# Altium footprint library connectors.PcbLib: 32 footprints (part 1 of 2)
Each footprint in its own frame and in the unit in brackets; x right, y up, seen from the top. Pads: shape width x height; smd on the part's side, far side on the other; paste and mask are expansions set on the pad; w line width, h text height; cw(c..) or ccw(c..) is an arc to the next point about the centre after c.
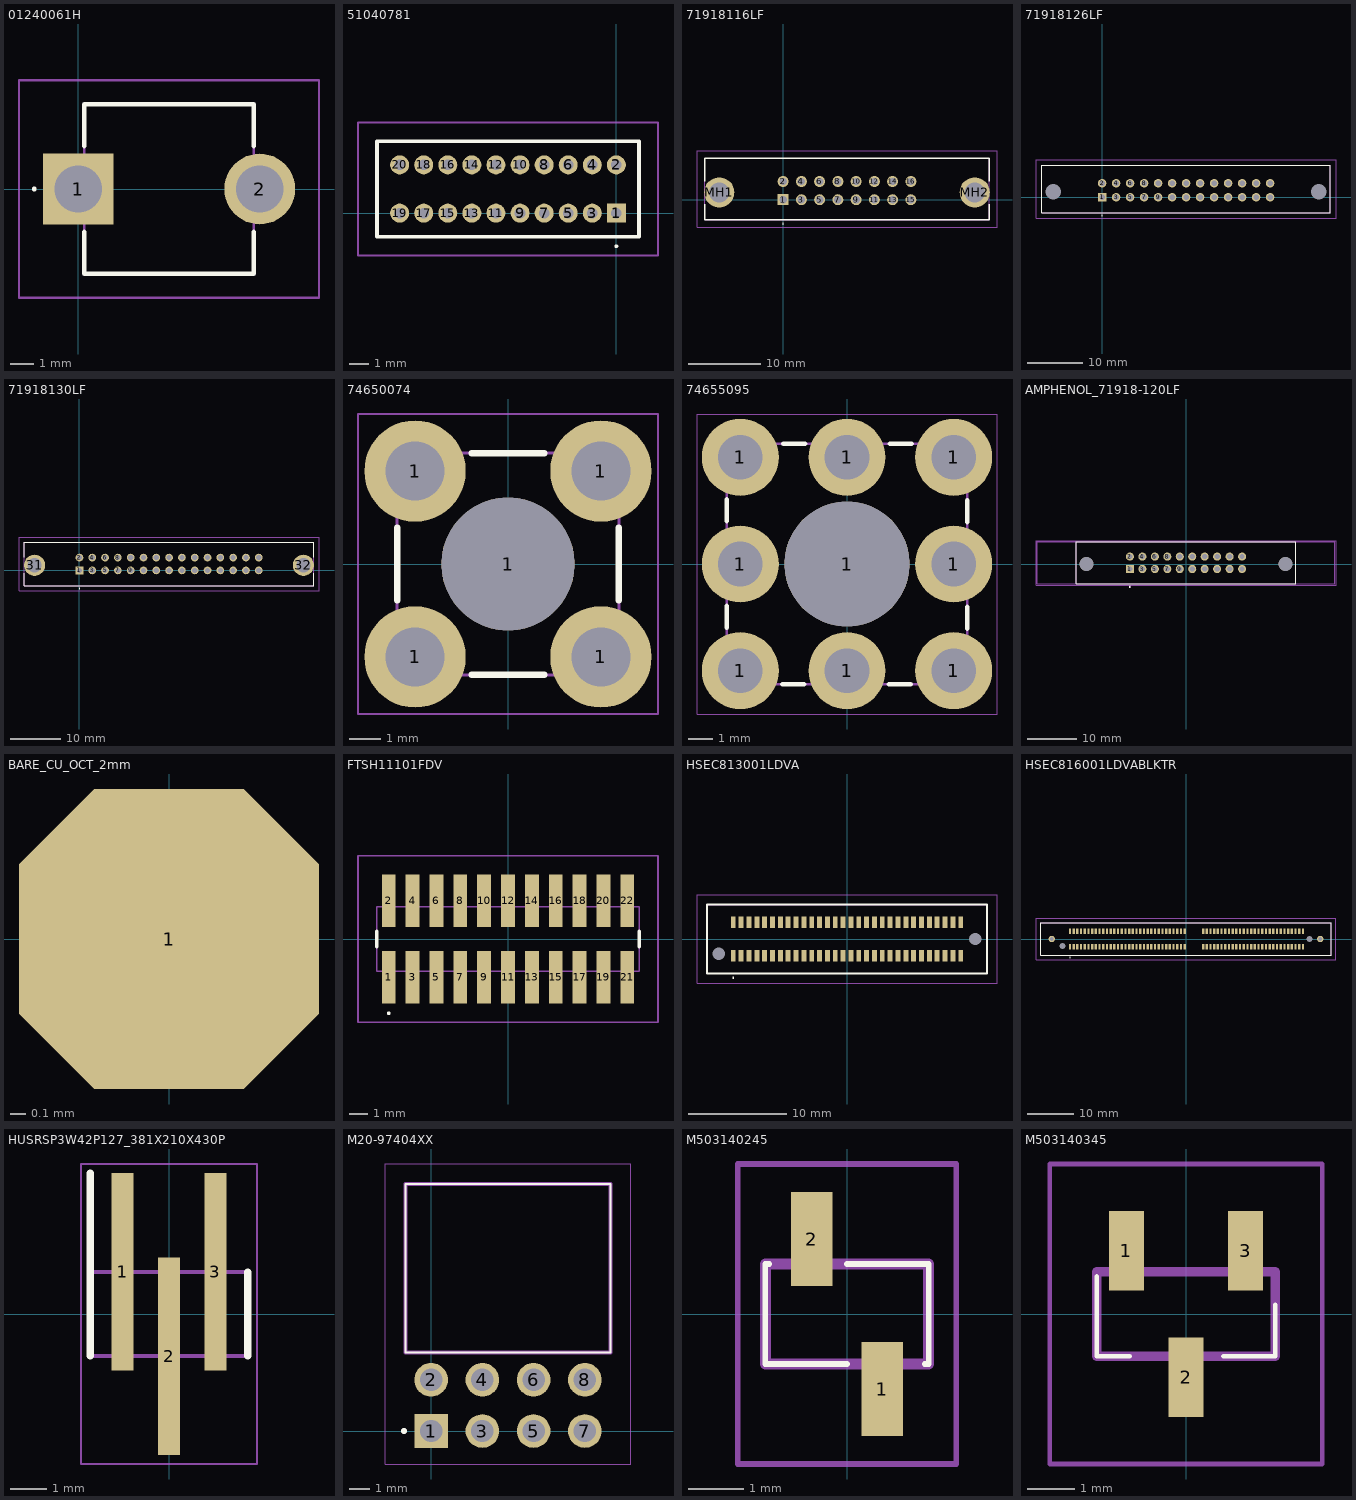
[diagram p0: the footprints below, top view; thin cyan lines are the x and y axes]

## 01240061H [mm]
pads (2):
  rect 2.97x2.97 hole 1.98: 1(0,0)
  round 2.97 hole 1.98: 2(7.6,0)
Top Overlay:
  lines w0.1: -1.9,0 ccw(c-1.85,0) -1.8,0 ccw(c-1.85,0) -1.9,0
  lines w0.2: 0.245,-1.8 0.245,-3.555 7.355,-3.555 7.355,-1.8 ; 0.245,1.8 0.245,3.555 7.355,3.555 7.355,1.8
Mechanical 13:
  lines w0.1: 0.245,-3.555 7.355,-3.555 7.355,3.555 0.245,3.555 0.245,-3.555
Mechanical 15:
  lines w0.1: -2.485,-4.555 10.085,-4.555 10.085,4.555 -2.485,4.555 -2.485,-4.555
3D body "01240061H.stp": height 10.68, standoff -3.56, extent -0.5,-3.915 7.61,3.914

## 51040781 [mm]
pads (20):
  rect 1x1 hole 0.56: 1(0,0)
  round 1 hole 0.56: 2(0,2.54) 3(-1.27,0) 4(-1.27,2.54) 5(-2.54,0) 6(-2.54,2.54) 7(-3.81,0) 8(-3.81,2.54) 9(-5.08,0) 10(-5.08,2.54) 11(-6.35,0) 12(-6.35,2.54) 13(-7.62,0) 14(-7.62,2.54) 15(-8.89,0) 16(-8.89,2.54) 17(-10.16,0) 18(-10.16,2.54) 19(-11.43,0) 20(-11.43,2.54)
Top Overlay:
  lines w0.1: 0,-1.8 cw(c0,-1.75) 0,-1.7 cw(c0,-1.75) 0,-1.8
  lines w0.2: -12.625,-1.245 1.195,-1.245 1.195,3.785 -12.625,3.785 -12.625,-1.245
Mechanical 13:
  lines w0.1: -12.625,-1.245 1.195,-1.245 1.195,3.785 -12.625,3.785 -12.625,-1.245
Mechanical 15:
  lines w0.1: -13.625,-2.245 2.195,-2.245 2.195,4.785 -13.625,4.785 -13.625,-2.245
3D body "5-104078-1.stp": height 0, standoff -11.43, extent -12.677,-1.245 1.143,3.785

## 71918116LF [mm]
pads (18):
  rect 1.53x1.53 hole 1.02: 1(0,0)
  round 1.53 hole 1.02: 2(0,2.54) 3(2.54,0) 4(2.54,2.54) 5(5.08,0) 6(5.08,2.54) 7(7.62,0) 8(7.62,2.54) 9(10.16,0) 10(10.16,2.54) 11(12.7,0) 12(12.7,2.54) 13(15.24,0) 14(15.24,2.54) 15(17.78,0) 16(17.78,2.54)
  round 4.2 hole 2.8: MH1(-8.89,1.02) MH2(26.67,1.02)
Top Overlay:
  lines w0.1: 0,-3.4 ccw(c0,-3.35) 0,-3.3 ccw(c0,-3.35) 0,-3.4
  lines w0.2: -10.92,-0.6 -10.92,-2.8 28.7,-2.805 28.7,-0.6 ; -10.92,2.6 -10.92,5.795 28.7,5.8 28.7,2.6
Mechanical 13:
  lines w0.1: -10.92,-2.805 28.7,-2.805 28.7,5.795 -10.92,5.795 -10.92,-2.805
Mechanical 15:
  lines w0.1: -11.99,-3.805 29.77,-3.805 29.77,6.795 -11.99,6.795 -11.99,-3.805
3D body "71918-116LF.stp": height 26.32, standoff -3.66, extent -10.921,-2.703 28.699,5.697

## 71918126LF [mm]
pads (28):
  rect 1.53x1.53 hole 1.02: 1(0,0)
  round 1.53 hole 1.02: 2(0,2.54) 3(2.54,0) 4(2.54,2.54) 5(5.08,0) 6(5.08,2.54) 7(7.62,0) 8(7.62,2.54) 9(10.16,0) 10(10.16,2.54) 11(12.7,0) 12(12.7,2.54) 13(15.24,0) 14(15.24,2.54) 15(17.78,0) 16(17.78,2.54) 17(20.32,0) 18(20.32,2.54) 19(22.86,0) 20(22.86,2.54) 21(25.4,0) 22(25.4,2.54) 23(27.94,0) 24(27.94,2.54) 25(30.48,0) 26(30.48,2.54)
  round 1.4 hole 2.8 unplated: 27(-8.89,1.02) 28(39.33,1.02)
Top Overlay:
  lines w0.1: 0,-3.4 cw(c0,-3.35) 0,-3.3 cw(c0,-3.35) 0,-3.4
  lines w0.2: -10.94,-2.805 41.38,-2.805 41.38,5.795 -10.94,5.795 -10.94,-2.805
Mechanical 13:
  lines w0.1: -10.94,-2.805 -10.94,5.795 41.38,5.795 41.38,-2.805 -10.94,-2.805
Mechanical 15:
  lines w0.1: -11.99,-3.805 -11.99,6.795 42.43,6.795 42.43,-3.805 -11.99,-3.805
3D body "71918-126LF.stp": height 27.14, standoff -2.84, extent -10.941,-2.703 41.379,5.697

## 71918130LF [mm]
pads (32):
  rect 1.53x1.53 hole 1.02: 1(0,0)
  round 1.53 hole 1.02: 2(0,2.54) 3(2.54,0) 4(2.54,2.54) 5(5.08,0) 6(5.08,2.54) 7(7.62,0) 8(7.62,2.54) 9(10.16,0) 10(10.16,2.54) 11(12.7,0) 12(12.7,2.54) 13(15.24,0) 14(15.24,2.54) 15(17.78,0) 16(17.78,2.54) 17(20.32,0) 18(20.32,2.54) 19(22.86,0) 20(22.86,2.54) 21(25.4,0) 22(25.4,2.54) 23(27.94,0) 24(27.94,2.54) 25(30.48,0) 26(30.48,2.54) 27(33.02,0) 28(33.02,2.54) 29(35.56,0) 30(35.56,2.54)
  round 4.2 hole 2.8: 31(-8.89,1.02) 32(44.41,1.02)
Top Overlay:
  lines w0.1: 0,-3.6 ccw(c0,-3.55) 0,-3.5 ccw(c0,-3.55) 0,-3.6
  lines w0.2: -10.94,-0.6 -10.94,-3.03 46.46,-3.03 46.46,-0.6 ; -10.94,2.6 -10.94,5.57 -10.8,5.57 46.46,5.57 46.46,2.6
Mechanical 13:
  lines w0.1: -10.94,-3.03 46.46,-3.03 46.46,5.57 -10.94,5.57 -10.94,-3.03
Mechanical 15:
  lines w0.1: -11.99,-4.03 47.51,-4.03 47.51,6.57 -11.99,6.57 -11.99,-4.03
3D body "71918-130LF.stp": height 26.56, standoff -3.42, extent -10.941,-2.933 46.459,5.467

## 74650074 [mm] "REDCUBE THR with internal thread, M4x2.5mm, through"
height 3
pads (5):
  round 3.2 hole 1.85: 1(-2.935,-2.935) 1(-2.935,2.935) 1(2.935,-2.935) 1(2.935,2.935)
  round 4.2 hole 4.2 unplated: 1(0,0)
Top Overlay:
  lines w0.2: -3.5,-1.15 -3.5,1.15 ; -1.15,-3.5 1.15,-3.5 ; -1.15,3.5 1.15,3.5 ; 3.5,-1.15 3.5,1.15
Top Paste:
  region: -2.935,1.385 -3.088,1.385 -3.387,1.445 -3.669,1.561 -3.923,1.731 -4.139,1.947 -4.309,2.201 -4.425,2.483 -4.485,2.782 -4.485,2.935 -4.485,3.088 -4.425,3.387 -4.309,3.669 -4.139,3.923 -3.923,4.139 -3.669,4.309 -3.387,4.425 -3.088,4.485 -2.935,4.485 -2.782,4.485 -2.483,4.425 -2.201,4.309 -1.947,4.139 -1.731,3.923 -1.561,3.669 -1.445,3.387 -1.385,3.088 -1.385,2.935 -1.385,2.782 -1.445,2.483 -1.561,2.201 -1.731,1.947 -1.947,1.731 -2.201,1.561 -2.483,1.445 -2.782,1.385
  region: 2.935,1.385 2.782,1.385 2.483,1.445 2.201,1.561 1.947,1.731 1.731,1.947 1.561,2.201 1.445,2.483 1.385,2.782 1.385,2.935 1.385,3.088 1.445,3.387 1.561,3.669 1.731,3.923 1.947,4.139 2.201,4.309 2.483,4.425 2.782,4.485 2.935,4.485 3.088,4.485 3.387,4.425 3.669,4.309 3.923,4.139 4.139,3.923 4.309,3.669 4.425,3.387 4.485,3.088 4.485,2.935 4.485,2.782 4.425,2.483 4.309,2.201 4.139,1.947 3.923,1.731 3.669,1.561 3.387,1.445 3.088,1.385
  region: 2.935,-4.485 2.782,-4.485 2.483,-4.425 2.201,-4.309 1.947,-4.139 1.731,-3.923 1.561,-3.669 1.445,-3.387 1.385,-3.088 1.385,-2.935 1.385,-2.782 1.445,-2.483 1.561,-2.201 1.731,-1.947 1.947,-1.731 2.201,-1.561 2.483,-1.445 2.782,-1.385 2.935,-1.385 3.088,-1.385 3.387,-1.445 3.669,-1.561 3.923,-1.731 4.139,-1.947 4.309,-2.201 4.425,-2.483 4.485,-2.782 4.485,-2.935 4.485,-3.088 4.425,-3.387 4.309,-3.669 4.139,-3.923 3.923,-4.139 3.669,-4.309 3.387,-4.425 3.088,-4.485
  region: -2.935,-4.485 -3.088,-4.485 -3.387,-4.425 -3.669,-4.309 -3.923,-4.139 -4.139,-3.923 -4.309,-3.669 -4.425,-3.387 -4.485,-3.088 -4.485,-2.935 -4.485,-2.782 -4.425,-2.483 -4.309,-2.201 -4.139,-1.947 -3.923,-1.731 -3.669,-1.561 -3.387,-1.445 -3.088,-1.385 -2.935,-1.385 -2.782,-1.385 -2.483,-1.445 -2.201,-1.561 -1.947,-1.731 -1.731,-1.947 -1.561,-2.201 -1.445,-2.483 -1.385,-2.782 -1.385,-2.935 -1.385,-3.088 -1.445,-3.387 -1.561,-3.669 -1.731,-3.923 -1.947,-4.139 -2.201,-4.309 -2.483,-4.425 -2.782,-4.485
Top Courtyard:
  lines w0.05: -0.5,0 0.5,0 ; 0,-0.5 0,0.5 ; -4.735,-4.735 4.735,-4.735 4.735,4.735 -4.735,4.735 -4.735,-4.735
Top 3D Body:
  lines w0.1: -3.5,-3.5 3.5,-3.5 3.5,3.5 -3.5,3.5 -3.5,-3.5
Top Component Outline:
  lines w0.1: -3.5,-3.5 -3.5,3.5 3.5,3.5 3.5,-3.5 -3.5,-3.5
3D body "74650074.stp": height 3, standoff -2.5, extent -3.5,-3.5 3.5,3.5

## 74655095 [mm] "REDCUBE THR with internal thread, M5x3.5mm, through"
height 4
pads (9):
  round 3.2 hole 1.85: 1(-4.435,-4.435) 1(-4.435,0) 1(-4.435,4.435) 1(0,-4.435) 1(0,4.435) 1(4.435,-4.435) 1(4.435,0) 1(4.435,4.435)
  round 5.2 hole 5.2 unplated: 1(0,0)
Top Overlay:
  lines w0.2: -5,-2.65 -5,-1.75 ; -5,1.785 -5,2.685 ; -2.685,-5 -1.785,-5 ; -2.65,5 -1.75,5 ; 1.75,-5 2.65,-5 ; 1.785,5 2.685,5 ; 5,-2.685 5,-1.785 ; 5,1.75 5,2.65
Top Paste:
  drawing of 8 lines, arcs and shapes, not listed
Top Courtyard:
  lines w0.05: -0.5,0 0.5,0 ; 0,-0.5 0,0.5 ; -6.235,-6.235 -6.235,6.235 6.235,6.235 6.235,-6.235 -6.235,-6.235
Top 3D Body:
  lines w0.1: -5,-5 5,-5 5,5 -5,5 -5,-5
Top Designator:
  text ".Designator" at -7.498,-0.5 h1.5
Top Component Outline:
  lines w0.1: -5,-5 -5,5 5,5 5,-5 -5,-5
3D body "74655095.stp": height 4, standoff -2.5, extent -5,-5 5,5

## AMPHENOL_71918-120LF [mm]
height 26.8
pads (22):
  rect 1.65x1.65 / inner round 1.65 / far side rect 1.65x1.65 hole 1.1: 1(-11.43,-1.02)
  round 1.65 hole 1.1: 2(-11.43,1.52) 3(-8.89,-1.02) 4(-8.89,1.52) 5(-6.35,-1.02) 6(-6.35,1.52) 7(-3.81,-1.02) 8(-3.81,1.52) 9(-1.27,-1.02) 10(-1.27,1.52) 11(1.27,-1.02) 12(1.27,1.52) 13(3.81,-1.02) 14(3.81,1.52) 15(6.35,-1.02) 16(6.35,1.52) 17(8.89,-1.02) 18(8.89,1.52) 19(11.43,-1.02) 20(11.43,1.52)
  round 2.8 hole 2.8 unplated: ""(-20.32,0) ""(20.28,0)
Top Overlay:
  circle w0.2: c-11.43,-4.675 r0.1
  lines w0.127: -22.35,-4.075 -22.35,4.525 22.35,4.525 22.35,-4.075 -22.35,-4.075
Mechanical 13:
  circle w0.2: c-11.43,-4.675 r0.1
  lines w0.127: -22.35,-4.075 -22.35,4.525 ; -22.35,-4.075 22.35,-4.075 ; -22.35,-4.075 -30.35,-4.075 -30.35,4.525 -22.35,4.525 ; -22.35,4.525 22.35,4.525 ; 22.35,-4.075 22.35,4.525 ; 22.35,-4.075 30.35,-4.075 30.35,4.525 22.35,4.525
Mechanical 15:
  lines w0.05: -30.6,-4.325 -30.6,4.775 30.6,4.775 30.6,-4.325 -30.6,-4.325
3D body "step_temp.STEP": height 26.8, standoff -3.19, extent -22.348,-3.819 22.352,4.581

## BARE_CU_OCT_2mm [mm]
pads (1):
  oct 2x2 smd: 1(0,0)

## FTSH11101FDV [mm]
pads (22):
  rect 0.74x2.79 smd: 1(-6.35,-2.035) 2(-6.35,2.035) 3(-5.08,-2.035) 4(-5.08,2.035) 5(-3.81,-2.035) 6(-3.81,2.035) 7(-2.54,-2.035) 8(-2.54,2.035) 9(-1.27,-2.035) 10(-1.27,2.035) 11(0,-2.035) 12(0,2.035) 13(1.27,-2.035) 14(1.27,2.035) 15(2.54,-2.035) 16(2.54,2.035) 17(3.81,-2.035) 18(3.81,2.035) 19(5.08,-2.035) 20(5.08,2.035) 21(6.35,-2.035) 22(6.35,2.035)
Top Overlay:
  lines w0.1: -6.35,-4 ccw(c-6.35,-3.95) -6.35,-3.9 ccw(c-6.35,-3.95) -6.35,-4
  lines w0.2: -6.985,-0.4 -6.985,0.4 ; 6.985,-0.4 6.985,0.4
Mechanical 13:
  lines w0.1: -6.985,-1.715 6.985,-1.715 6.985,1.715 -6.985,1.715 -6.985,-1.715
Mechanical 15:
  lines w0.1: -7.985,-4.43 7.985,-4.43 7.985,4.43 -7.985,4.43 -7.985,-4.43
3D body "FTSH-111-01-F-DV.stp": height 6.2, standoff 0, extent -6.985,-3.356 6.985,3.356

## HSEC813001LDVA [mm]
pads (62):
  rect 0.5x1.2 smd: 1(-11.6,-1.7) 2(-11.6,1.7) 3(-10.8,-1.7) 4(-10.8,1.7) 5(-10,-1.7) 6(-10,1.7) 7(-9.2,-1.7) 8(-9.2,1.7) 9(-8.4,-1.7) 10(-8.4,1.7) 11(-7.6,-1.7) 12(-7.6,1.7) 13(-6.8,-1.7) 14(-6.8,1.7) 15(-6,-1.7) 16(-6,1.7) 17(-5.2,-1.7) 18(-5.2,1.7) 19(-4.4,-1.7) 20(-4.4,1.7) 21(-3.6,-1.7) 22(-3.6,1.7) 23(-2.8,-1.7) 24(-2.8,1.7) 25(-2,-1.7) 26(-2,1.7) 27(-1.2,-1.7) 28(-1.2,1.7) 29(-0.4,-1.7) 30(-0.4,1.7) 31(0.4,-1.7) 32(0.4,1.7) 33(1.2,-1.7) 34(1.2,1.7) 35(2,-1.7) 36(2,1.7) 37(2.8,-1.7) 38(2.8,1.7) 39(3.6,-1.7) 40(3.6,1.7) 41(4.4,-1.7) 42(4.4,1.7) 43(5.2,-1.7) 44(5.2,1.7) 45(6,-1.7) 46(6,1.7) 47(6.8,-1.7) 48(6.8,1.7) 49(7.6,-1.7) 50(7.6,1.7) 51(8.4,-1.7) 52(8.4,1.7) 53(9.2,-1.7) 54(9.2,1.7) 55(10,-1.7) 56(10,1.7) 57(10.8,-1.7) 58(10.8,1.7) 59(11.6,-1.7) 60(11.6,1.7)
  round 0.635 hole 1.27 unplated: 61(-13.1,-1.5) 62(13.1,0)
Top Overlay:
  lines w0.1: -11.6,-4 ccw(c-11.6,-3.95) -11.6,-3.9 ccw(c-11.6,-3.95) -11.6,-4
  lines w0.2: -14.3,-3.5 14.3,-3.5 14.3,3.5 -14.3,3.5 -14.3,-3.5
Mechanical 13:
  lines w0.1: -14.3,-3.5 14.3,-3.5 14.3,3.5 -14.3,3.5 -14.3,-3.5
Mechanical 15:
  lines w0.1: -15.3,-4.5 15.3,-4.5 15.3,4.5 -15.3,4.5 -15.3,-4.5
3D body "HSEC8-130-01-L-DV-A.stp": height 7.96, standoff -1.34, extent -14.3,-3.5 14.3,3.5

## HSEC816001LDVABLKTR [mm]
pads (124):
  rect 0.5x1.2 smd: 1(-25.1,-1.7) 2(-25.1,1.7) 3(-24.3,-1.7) 4(-24.3,1.7) 5(-23.5,-1.7) 6(-23.5,1.7) 7(-22.7,-1.7) 8(-22.7,1.7) 9(-21.9,-1.7) 10(-21.9,1.7) 11(-21.1,-1.7) 12(-21.1,1.7) 13(-20.3,-1.7) 14(-20.3,1.7) 15(-19.5,-1.7) 16(-19.5,1.7) 17(-18.7,-1.7) 18(-18.7,1.7) 19(-17.9,-1.7) 20(-17.9,1.7) 21(-17.1,-1.7) 22(-17.1,1.7) 23(-16.3,-1.7) 24(-16.3,1.7) 25(-15.5,-1.7) 26(-15.5,1.7) 27(-14.7,-1.7) 28(-14.7,1.7) 29(-13.9,-1.7) 30(-13.9,1.7) 31(-13.1,-1.7) 32(-13.1,1.7) 33(-12.3,-1.7) 34(-12.3,1.7) 35(-11.5,-1.7) 36(-11.5,1.7) 37(-10.7,-1.7) 38(-10.7,1.7) 39(-9.9,-1.7) 40(-9.9,1.7) 41(-9.1,-1.7) 42(-9.1,1.7) 43(-8.3,-1.7) 44(-8.3,1.7) 45(-7.5,-1.7) 46(-7.5,1.7) 47(-6.7,-1.7) 48(-6.7,1.7) 49(-5.9,-1.7) 50(-5.9,1.7) 51(-5.1,-1.7) 52(-5.1,1.7) 53(-4.3,-1.7) 54(-4.3,1.7) 55(-3.5,-1.7) 56(-3.5,1.7) 57(-2.7,-1.7) 58(-2.7,1.7) 59(-1.9,-1.7) 60(-1.9,1.7) 61(-1.1,-1.7) 62(-1.1,1.7) 63(-0.3,-1.7) 64(-0.3,1.7) 65(3.7,-1.7) 66(3.7,1.7) 67(4.5,-1.7) 68(4.5,1.7) 69(5.3,-1.7) 70(5.3,1.7) 71(6.1,-1.7) 72(6.1,1.7) 73(6.9,-1.7) 74(6.9,1.7) 75(7.7,-1.7) 76(7.7,1.7) 77(8.5,-1.7) 78(8.5,1.7) 79(9.3,-1.7) 80(9.3,1.7) 81(10.1,-1.7) 82(10.1,1.7) 83(10.9,-1.7) 84(10.9,1.7) 85(11.7,-1.7) 86(11.7,1.7) 87(12.5,-1.7) 88(12.5,1.7) 89(13.3,-1.7) 90(13.3,1.7) 91(14.1,-1.7) 92(14.1,1.7) 93(14.9,-1.7) 94(14.9,1.7) 95(15.7,-1.7) 96(15.7,1.7) 97(16.5,-1.7) 98(16.5,1.7) 99(17.3,-1.7) 100(17.3,1.7) 101(18.1,-1.7) 102(18.1,1.7) 103(18.9,-1.7) 104(18.9,1.7) 105(19.7,-1.7) 106(19.7,1.7) 107(20.5,-1.7) 108(20.5,1.7) 109(21.3,-1.7) 110(21.3,1.7) 111(22.1,-1.7) 112(22.1,1.7) 113(22.9,-1.7) 114(22.9,1.7) 115(23.7,-1.7) 116(23.7,1.7) 117(24.5,-1.7) 118(24.5,1.7) 119(25.3,-1.7) 120(25.3,1.7)
  round 1.365 hole 0.84: MH1(-29.05,0) MH2(29.05,0)
  round 0.635 hole 1.27 unplated: MH3(-26.7,-1.5) MH4(26.7,0)
Top Overlay:
  lines w0.1: -25.1,-4.1 cw(c-25.1,-4.05) -25.1,-4 cw(c-25.1,-4.05) -25.1,-4.1
  lines w0.2: -31.45,-3.5 31.45,-3.5 31.45,3.5 -31.45,3.5 -31.45,-3.5
Mechanical 13:
  lines w0.1: -31.45,-3.5 31.45,-3.5 31.45,3.5 -31.45,3.5 -31.45,-3.5
Mechanical 15:
  lines w0.1: -32.45,-4.5 32.45,-4.5 32.45,4.5 -32.45,4.5 -32.45,-4.5
3D body "HSEC8-160-01-L-DV-A-BL-K-TR.stp": height 12.2, standoff -1.5, extent -33.449,-3.505 33.601,3.505

## HUSRSP3W42P127_381X210X430P [mm]
pads (3):
  rect 0.6x5.4 smd: 1(-1.27,1.15) 2(0,-1.15) 3(1.27,1.15)
Top Overlay:
  lines w0.2: -2.155,-1.15 -2.155,3.85 ; 2.155,-1.15 2.155,1.15
Mechanical 13:
  lines w0.1: -2.155,-1.15 -2.155,1.15 2.155,1.15 2.155,-1.15 -2.155,-1.15
Mechanical 15:
  lines w0.05: -2.405,-4.1 -2.405,4.1 2.405,4.1 2.405,-4.1 -2.405,-4.1
3D body "M50-3630342.stp": height 5.05, standoff 0, extent -2.155,-2.5 2.155,2.5

## M20-97404XX [mm]
pads (8):
  rect 1.67x1.67 hole 1.11: 1(0,0)
  round 1.67 hole 1.11: 2(0,2.54) 3(2.54,0) 4(2.54,2.54) 5(5.08,0) 6(5.08,2.54) 7(7.62,0) 8(7.62,2.54)
Top Overlay:
  circle w0.2: c-1.35,0 r0.05
  lines w0.1: -1.27,3.9 8.89,3.9 8.89,12.24 -1.27,12.24 -1.27,3.9
Mechanical 13:
  lines w0.2: -1.27,3.9 8.89,3.9 8.89,12.24 -1.27,12.24 -1.27,3.9
Mechanical 15:
  lines w0.05: -2.27,-1.635 9.89,-1.635 9.89,13.24 -2.27,13.24 -2.27,-1.635
3D body "M20-9740446.stp": height 5.04, standoff -3, extent -1.27,-0.3 8.89,12.26

## M503140245 [mm]
pads (2):
  rect 0.74x1.7 smd: 1(0.635,-1.35) 2(-0.635,1.35)
Top Overlay:
  lines w0.1: -1.4,0.9 -1.47,0.9 -1.47,-0.9 0,-0.9 ; 0,0.9 1.47,0.9 1.47,-0.9 1.4,-0.9
Mechanical 13:
  lines w0.2: -1.47,-0.9 -1.47,0.9 1.47,0.9 1.47,-0.9 -1.47,-0.9
Mechanical 15:
  lines w0.1: -1.97,-2.7 -1.97,2.7 1.97,2.7 1.97,-2.7 -1.97,-2.7
3D body "M50-3140245.stp": height 3.6, standoff 0, extent -1.47,-1.6 1.47,1.6

## M503140345 [mm]
pads (3):
  rect 0.74x1.7 smd: 1(-1.27,1.35) 2(0,-1.35) 3(1.27,1.35)
Top Overlay:
  lines w0.1: -1.905,0.8 -1.905,-0.9 -1.2,-0.9 ; 0.8,-0.9 1.905,-0.9 1.905,0.2
Mechanical 13:
  lines w0.2: -1.905,-0.9 1.905,-0.9 1.905,0.9 -1.905,0.9 -1.905,-0.9
Mechanical 15:
  lines w0.1: -2.905,-3.2 2.905,-3.2 2.905,3.2 -2.905,3.2 -2.905,-3.2
3D body "M50-3140345.stp": height 3.6, standoff 0, extent -2.105,-1.6 2.105,1.6